# Altium footprint library Footprint Library.PcbLib: 18 footprints (part 1 of 2)
Each footprint in its own frame and in the unit in brackets; x right, y up, seen from the top. Pads: shape width x height; smd on the part's side, far side on the other; paste and mask are expansions set on the pad; w line width, h text height; cw(c..) or ccw(c..) is an arc to the next point about the centre after c.
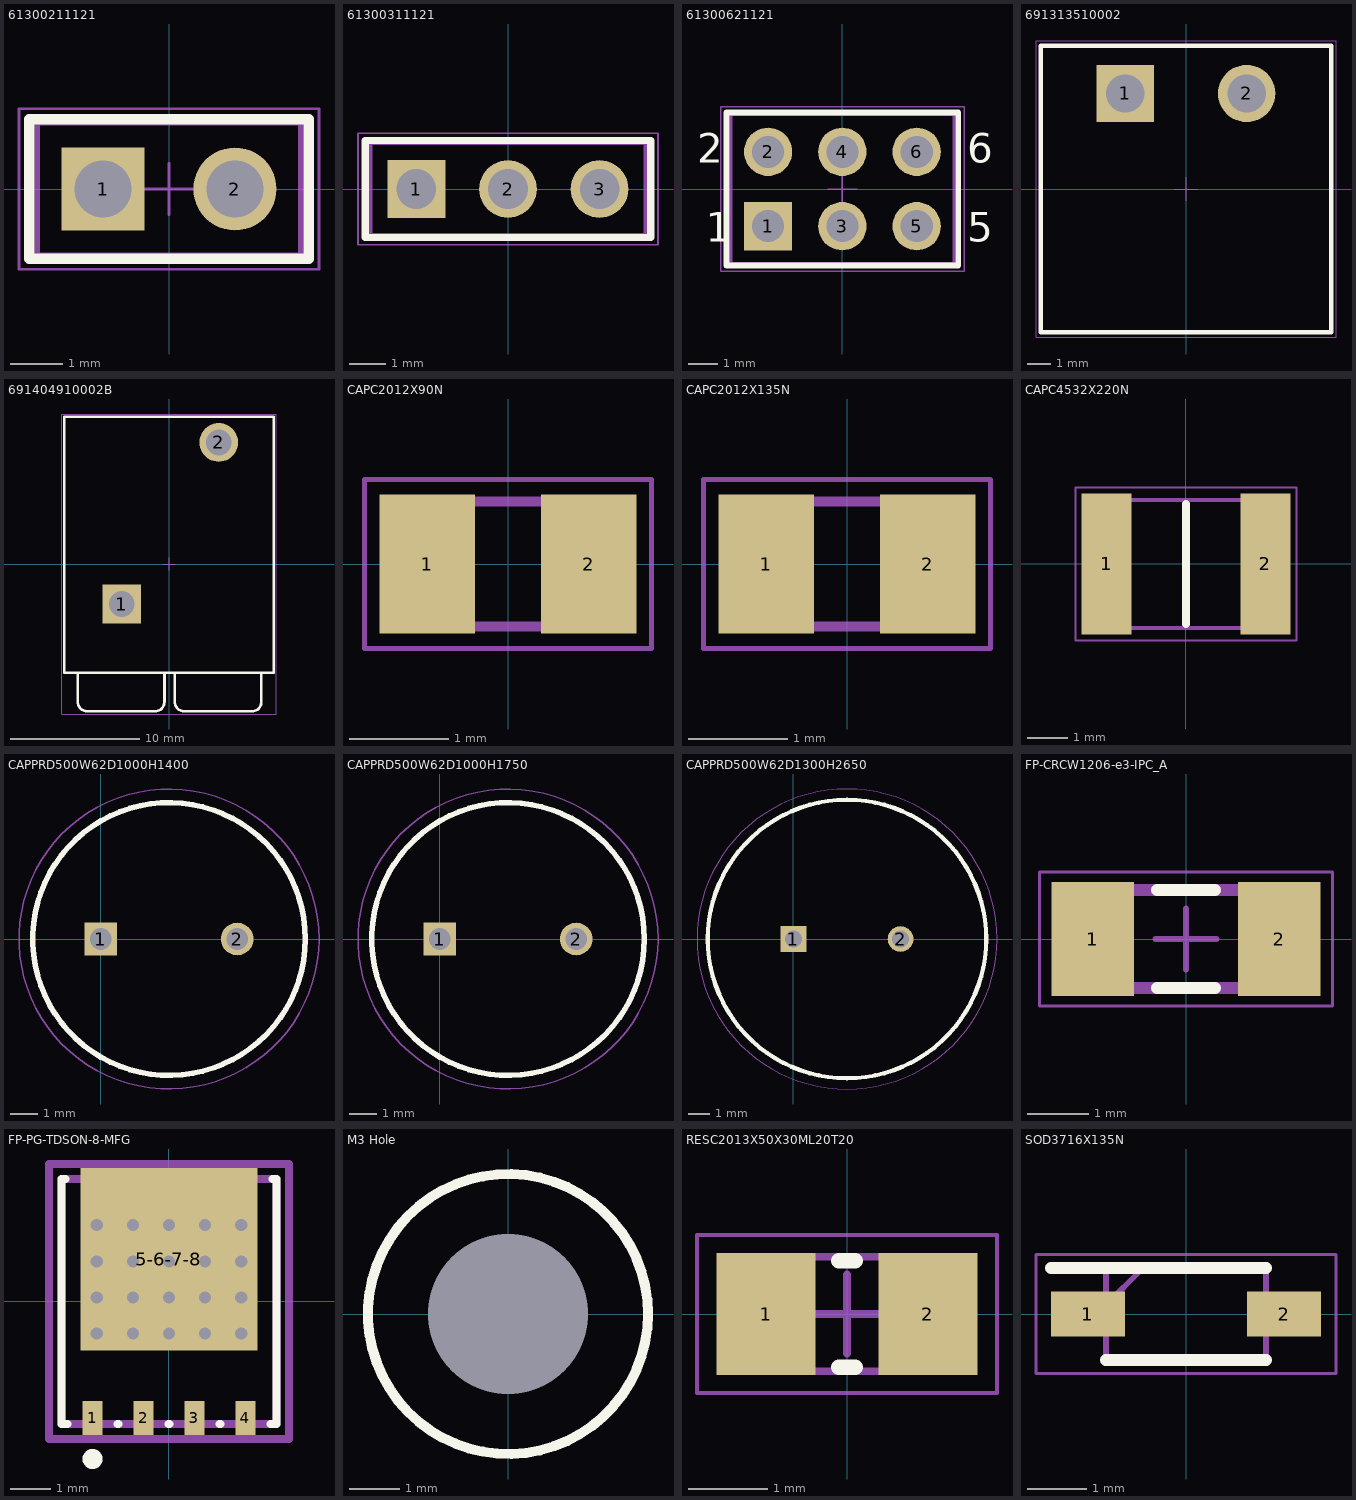
[diagram p0: the footprints below, top view; thin cyan lines are the x and y axes]

## 61300211121 [mm] "Pin Header, pitch 2.54 mm, THT, Vertical, single row, 2p"
height 8.54
pads (2):
  rect 1.6x1.6 hole 1.1: 1(-1.27,0)
  round 1.6 hole 1.1: 2(1.27,0)
Top Overlay:
  lines w0.2: -2.69,-1.345 2.69,-1.345 2.69,1.345 -2.69,1.345 -2.69,-1.345
Mechanical 13:
  lines w0.1: -2.54,-1.27 -2.54,1.27 2.54,1.27 2.54,-1.27 -2.54,-1.27
Mechanical 15:
  lines w0.05: -0.5,0 0.5,0 ; 0,-0.5 0,0.5 ; -2.89,-1.545 -2.89,1.545 2.89,1.545 2.89,-1.545 -2.89,-1.545
3D body "61300211121.stp": height 8.57, standoff -2.97, extent -2.54,-1.27 2.54,1.27

## 61300311121 [mm] "Pin Header, pitch 2.54 mm, THT, Vertical, single row, 3p"
height 8.54
pads (3):
  rect 1.6x1.6 hole 1.1: 1(-2.54,0)
  round 1.6 hole 1.1: 2(0,0) 3(2.54,0)
Top Overlay:
  lines w0.2: -3.96,-1.345 3.96,-1.345 3.96,1.345 -3.96,1.345 -3.96,-1.345
Mechanical 13:
  lines w0.1: -3.81,-1.27 -3.81,1.27 3.81,1.27 3.81,-1.27 -3.81,-1.27
Mechanical 15:
  lines w0.05: -0.5,0 0.5,0 ; 0,-0.5 0,0.5 ; -4.16,-1.545 -4.16,1.545 4.16,1.545 4.16,-1.545 -4.16,-1.545
3D body "61300311121.stp": height 8.57, standoff -2.97, extent -3.81,-1.27 3.81,1.27

## 61300621121 [mm] "Pin Header, pitch 2.54 mm, THT, Vertical, dual row, 6p"
height 8.54
pads (6):
  rect 1.65x1.65 hole 1.1: 1(-2.54,-1.27)
  round 1.65 hole 1.1: 2(-2.54,1.27) 3(0,-1.27) 4(0,1.27) 5(2.54,-1.27) 6(2.54,1.27)
Top Overlay:
  lines w0.2: -3.96,-2.615 -3.96,2.615 3.96,2.615 3.96,-2.615 -3.96,-2.615
  text "1" at -4.67,-1.8 h1.02
  text "2" at -4.97,0.9 h1.02
  text "5" at 4.27,-1.8 h1.02
  text "6" at 4.27,0.9 h1.02
Mechanical 13:
  lines w0.1: -3.81,-2.54 -3.81,2.54 3.81,2.54 3.81,-2.54 -3.81,-2.54
Mechanical 15:
  lines w0.05: -0.5,0 0.5,0 ; 0,-0.5 0,0.5 ; -4.16,-2.815 4.16,-2.815 4.16,2.815 -4.16,2.815 -4.16,-2.815
3D body "61300621121.stp": height 8.59, standoff -2.95, extent -3.81,-2.54 3.81,2.54

## 691313510002 [mm] "5,08mm - PCB Headers - Horizontal - Closed ends - 02p"
height 8.5
pads (2):
  rect 2.4x2.4 hole 1.6: 1(-2.54,4)
  round 2.4 hole 1.6: 2(2.54,4)
Top Overlay:
  lines w0.2: -6.08,-6 6.08,-6 6.08,6 -6.08,6 -6.08,-6
Mechanical 13:
  lines w0.1: -6.08,-6 -6.08,6 6.08,6 6.08,-6 -6.08,-6
Mechanical 15:
  lines w0.05: -0.5,0 0.5,0 ; 0,-0.5 0,0.5 ; -6.28,-6.2 6.28,-6.2 6.28,6.2 -6.28,6.2 -6.28,-6.2
3D body "691313510002.stp": height 8.55, standoff -3.45, extent -6.08,-6 6.08,6

## 691404910002B [mm] "7.50 mm Screwless Clamp Power Connector, 2p"
height 24.1
pads (2):
  rect 3x3 hole 2: 1(-3.65,-3.1)
  round 3 hole 2: 2(3.85,9.4)
Top Overlay:
  lines w0.2: -7.05,-8.4 -7.05,-10.65 ccw(c-6.3,-10.65) -6.3,-11.4 -1.05,-11.4 ; -1.1,-11.4 ccw(c-1.1,-10.65) -0.35,-10.65 -0.35,-8.4 ; 0.45,-8.4 0.45,-10.65 ccw(c1.2,-10.65) 1.2,-11.4 6.45,-11.4 ; 6.4,-11.4 ccw(c6.4,-10.65) 7.15,-10.65 7.15,-8.4 ; -8.1,-8.4 8.1,-8.4 8.1,11.4 -8.1,11.4 -8.1,-8.4
Mechanical 13:
  lines w0.1: -7.05,-8.4 -7.05,-10.65 ccw(c-6.3,-10.65) -6.3,-11.4 -1.05,-11.4 ; -1.1,-11.4 ccw(c-1.1,-10.65) -0.35,-10.65 -0.35,-8.4 ; 0.45,-8.4 0.45,-10.65 ccw(c1.2,-10.65) 1.2,-11.4 6.45,-11.4 ; 6.4,-11.4 ccw(c6.4,-10.65) 7.15,-10.65 7.15,-8.4 ; -8.1,-8.4 -8.1,11.4 8.1,11.4 8.1,-8.4 -8.1,-8.4
Mechanical 15:
  lines w0.05: -0.5,0 0.5,0 ; 0,-0.5 0,0.5 ; -8.3,-11.6 8.3,-11.6 8.3,11.6 -8.3,11.6 -8.3,-11.6
3D body "691404910002B.stp": height 24.16, standoff -3.54, extent -8.1,-11.395 8.1,11.4

## CAPC2012X90N [mm]
pads (2):
  rect 0.96x1.39 smd: 1(-0.81,0) 2(0.81,0)
Mechanical 13:
  lines w0.1: -1,-0.625 -1,0.625 1,0.625 1,-0.625 -1,-0.625
Mechanical 15:
  lines w0.05: -1.44,-0.85 -1.44,0.85 1.44,0.85 1.44,-0.85 -1.44,-0.85
3D body "885012207098.stp": height 0.9, standoff 0, extent -1,-0.625 1,0.625

## CAPC2012X135N [mm]
pads (2):
  rect 0.96x1.39 smd: 1(-0.81,0) 2(0.81,0)
Mechanical 13:
  lines w0.1: -1,-0.625 -1,0.625 1,0.625 1,-0.625 -1,-0.625
Mechanical 15:
  lines w0.05: -1.44,-0.85 -1.44,0.85 1.44,0.85 1.44,-0.85 -1.44,-0.85
3D body "885012207103.stp": height 1.35, standoff 0, extent -1,-0.625 1,0.625

## CAPC4532X220N [mm]
pads (2):
  rect 1.25x3.52 smd: 1(-1.98,0) 2(1.98,0)
Top Overlay:
  lines w0.2: 0,-1.5 0,1.5
Mechanical 13:
  lines w0.1: -2.25,-1.6 2.25,-1.6 2.25,1.6 -2.25,1.6 -2.25,-1.6
Mechanical 15:
  lines w0.05: -2.755,-1.91 2.755,-1.91 2.755,1.91 -2.755,1.91 -2.755,-1.91
3D body "C1812C104JAGACAUTO.stp": height 2.2, standoff 0, extent -2.25,-1.6 2.25,1.6

## CAPPRD500W62D1000H1400 [mm]
pads (2):
  rect 1.2x1.2 hole 0.8: 1(0,0)
  round 1.2 hole 0.8: 2(5,0)
Top Overlay:
  circle w0.2: c2.5,0 r5
Mechanical 13:
  circle w0.1: c2.5,0 r5
Mechanical 15:
  circle w0.05: c2.5,0 r5.5
3D body "860020675020.stp": height 14, standoff -10, extent -2.75,-5.247 7.75,5.247

## CAPPRD500W62D1000H1750 [mm]
pads (2):
  rect 1.2x1.2 hole 0.8: 1(0,0)
  round 1.2 hole 0.8: 2(5,0)
Top Overlay:
  circle w0.2: c2.5,0 r5
Mechanical 13:
  circle w0.1: c2.5,0 r5
Mechanical 15:
  circle w0.05: c2.5,0 r5.5
3D body "860160675026.stp": height 17.5, standoff -10, extent -2.75,-5.247 7.75,5.247

## CAPPRD500W62D1300H2650 [mm]
pads (2):
  rect 1.2x1.2 hole 0.8: 1(0,0)
  round 1.2 hole 0.8: 2(5,0)
Top Overlay:
  circle w0.2: c2.5,0 r6.5
Mechanical 13:
  circle w0.1: c2.5,0 r6.5
Mechanical 15:
  circle w0.05: c2.5,0 r7
3D body "860160578032.stp": height 26.5, standoff -10, extent -4.25,-6.75 9.25,6.75

## FP-CRCW1206-e3-IPC_A [mm]
pads (2):
  rect 1.356x1.858 smd paste+0 mask+0: 1(-1.526,0) 2(1.526,0)
Top Overlay:
  lines w0.2: -0.473,-0.8 0.473,-0.8 ; -0.473,0.8 0.473,0.8
Mechanical 5:
  lines w0.05: -2.4,-1.1 2.4,-1.1 2.4,1.1 -2.4,1.1 -2.4,-1.1
  text ".Designator" at 0,0.188 h1
Mechanical 13:
  lines w0.2: -1.6,-0.8 -1.6,0.8 1.6,0.8 1.6,-0.8 -1.6,-0.8
Mechanical 15:
  lines w0.05: -2.4,-1.1 2.4,-1.1 2.4,1.1 -2.4,1.1 -2.4,-1.1
Mechanical 16:
  lines w0.1: -0.5,0 0.5,0 ; 0,-0.5 0,0.5
3D body "Res_Vishay_CRCW1206619RFKEB_eec.STEP": height 0.25, standoff 0, extent -2.704,-1.429 2.704,1.429

## FP-PG-TDSON-8-MFG [mm]
pads (5):
  rect 0.5x0.85 smd paste-1000 mask+0: 1(-1.905,-2.9) 2(-0.635,-2.9) 3(0.635,-2.9) 4(1.905,-2.9)
  rect 4.41x4.55 smd paste-1000 mask-1000: 5-6-7-8(0,1.05)
via 0.9,-0.8 diameter 0.6 hole 0.3
via -0.9,-0.8 diameter 0.6 hole 0.3
via -1.8,1.9 diameter 0.6 hole 0.3
via -1.8,1 diameter 0.6 hole 0.3
via -1.8,0.1 diameter 0.6 hole 0.3
via -0.9,0.1 diameter 0.6 hole 0.3
via -0.9,1 diameter 0.6 hole 0.3
via -0.9,1.9 diameter 0.6 hole 0.3
via 0,1.9 diameter 0.6 hole 0.3
via 0,1 diameter 0.6 hole 0.3
via 0,0.1 diameter 0.6 hole 0.3
via 0.9,0.1 diameter 0.6 hole 0.3
via 0.9,1 diameter 0.6 hole 0.3
via 0.9,1.9 diameter 0.6 hole 0.3
via 1.8,1.9 diameter 0.6 hole 0.3
via 1.8,1 diameter 0.6 hole 0.3
via 1.8,0.1 diameter 0.6 hole 0.3
via 1.8,-0.8 diameter 0.6 hole 0.3
via 0,-0.8 diameter 0.6 hole 0.3
via -1.8,-0.8 diameter 0.6 hole 0.3
Top Overlay:
  circle w0.25: c-1.905,-3.925 r0.125
  lines w0.2: -2.58,3.05 -2.675,3.05 -2.675,-3.05 -2.53,-3.05 ; -1.28,-3.05 -1.26,-3.05 ; -0.01,-3.05 0.01,-3.05 ; 1.26,-3.05 1.28,-3.05 ; 2.53,-3.05 2.675,-3.05 2.675,3.05 2.58,3.05
Top Paste:
  rectangle: -2.105,-3.28 -1.705,-2.53
  rectangle: -0.835,-3.28 -0.435,-2.53
  rectangle: 0.435,-3.28 0.835,-2.53
  rectangle: 1.705,-3.28 2.105,-2.53
  rectangle: -2.155,2.53 -1.655,3.28
  rectangle: -0.885,2.53 -0.385,3.28
  rectangle: 0.385,2.53 0.885,3.28
  rectangle: 1.655,2.53 2.155,3.28
  rectangle: -1.6,0.75 -0.1,2.25
  rectangle: 0.1,0.75 1.6,2.25
  rectangle: -1.6,-0.95 -0.1,0.55
  rectangle: 0.1,-0.95 1.6,0.55
Top Solder:
  region: -2.205,3.325 -2.205,-1.225 2.205,-1.225 2.205,3.325 1.605,3.325 1.605,2.525 0.935,2.525 0.935,3.325 0.335,3.325 0.335,2.525 -0.335,2.525 -0.335,3.325 -0.935,3.325 -0.935,2.525 -1.605,2.525 -1.605,3.325
Mechanical 5:
  lines w0.2: -2.995,-3.425 2.995,-3.425 2.995,3.425 -2.995,3.425 -2.995,-3.425
  text ".Designator" at 0,0.188 h1
Mechanical 13:
  lines w0.2: -2.675,-3.05 2.675,-3.05 2.675,3.05 -2.675,3.05 -2.675,-3.05
Mechanical 15:
  lines w0.2: -2.995,-3.425 2.995,-3.425 2.995,3.425 -2.995,3.425 -2.995,-3.425
Mechanical 16:
  lines w0.1: -0.5,0 0.5,0 ; 0,-0.5 0,0.5
3D body "Trans_Infineon_BSC040N10NS5ATMA1_eec.STEP": height 0.25, standoff 0, extent -2.995,-3.425 2.995,3.425

## M3 Hole [mm]
pads (1):
  round 0 hole 3.2 unplated mask+0.1: 1(0,0)
Top Overlay:
  circle w0.2: c0,0 r2.8
Bottom Overlay:
  circle w0.2: c0,0 r3
Keep-Out Layer:
  circle w0.1: c0,0 r2.8

## RESC2013X50X30ML20T20 [mm] "Chip Resistor, 2-Leads, Body 2.00x1.25mm, IPC Low Density"
height 0.5
pads (2):
  rect 1.25x1.55 smd: 1(-1.025,0) 2(1.025,0)
Top Overlay:
  lines w0.2: -0.1,-0.675 0.1,-0.675 ; -0.1,0.675 0.1,0.675
Mechanical 13:
  lines w0.1: -1.1,-0.725 1.1,-0.725 1.1,0.725 -1.1,0.725 -1.1,-0.725
Mechanical 15:
  lines w0.05: -1.9,-1 1.9,-1 1.9,1 -1.9,1 -1.9,-1
  lines w0.1: -0.5,0 0.5,0 ; 0,-0.5 0,0.5
3D body: height 0.5, standoff 0, extent 0.8,-0.725 1.1,0.725
3D body: height 0.5, standoff 0, extent -1.1,-0.725 -0.8,0.725
3D body: height 0.5, standoff 0, extent -0.8,-0.725 0.8,0.725

## SOD3716X135N [mm]
pads (2):
  rect 1.25x0.75 smd: 1(-1.65,0) 2(1.65,0)
Top Overlay:
  lines w0.2: -2.275,0.775 1.35,0.775 ; -1.35,-0.775 1.35,-0.775
Mechanical 13:
  lines w0.1: -1.35,0.15 -0.725,0.775 ; -1.35,-0.775 1.35,-0.775 1.35,0.775 -1.35,0.775 -1.35,-0.775
Mechanical 15:
  lines w0.05: -2.525,-1 -2.525,1 2.525,1 2.525,-1 1.262,-1 -1.262,-1 -2.525,-1
3D body "1N4148W-E3-08.stp": height 1.35, standoff 0, extent -1.85,-0.775 1.85,0.775